# Altium integrated library Silicon Labs Clocks and Oscillators.IntLib: 678 symbols (part 32 of 45)
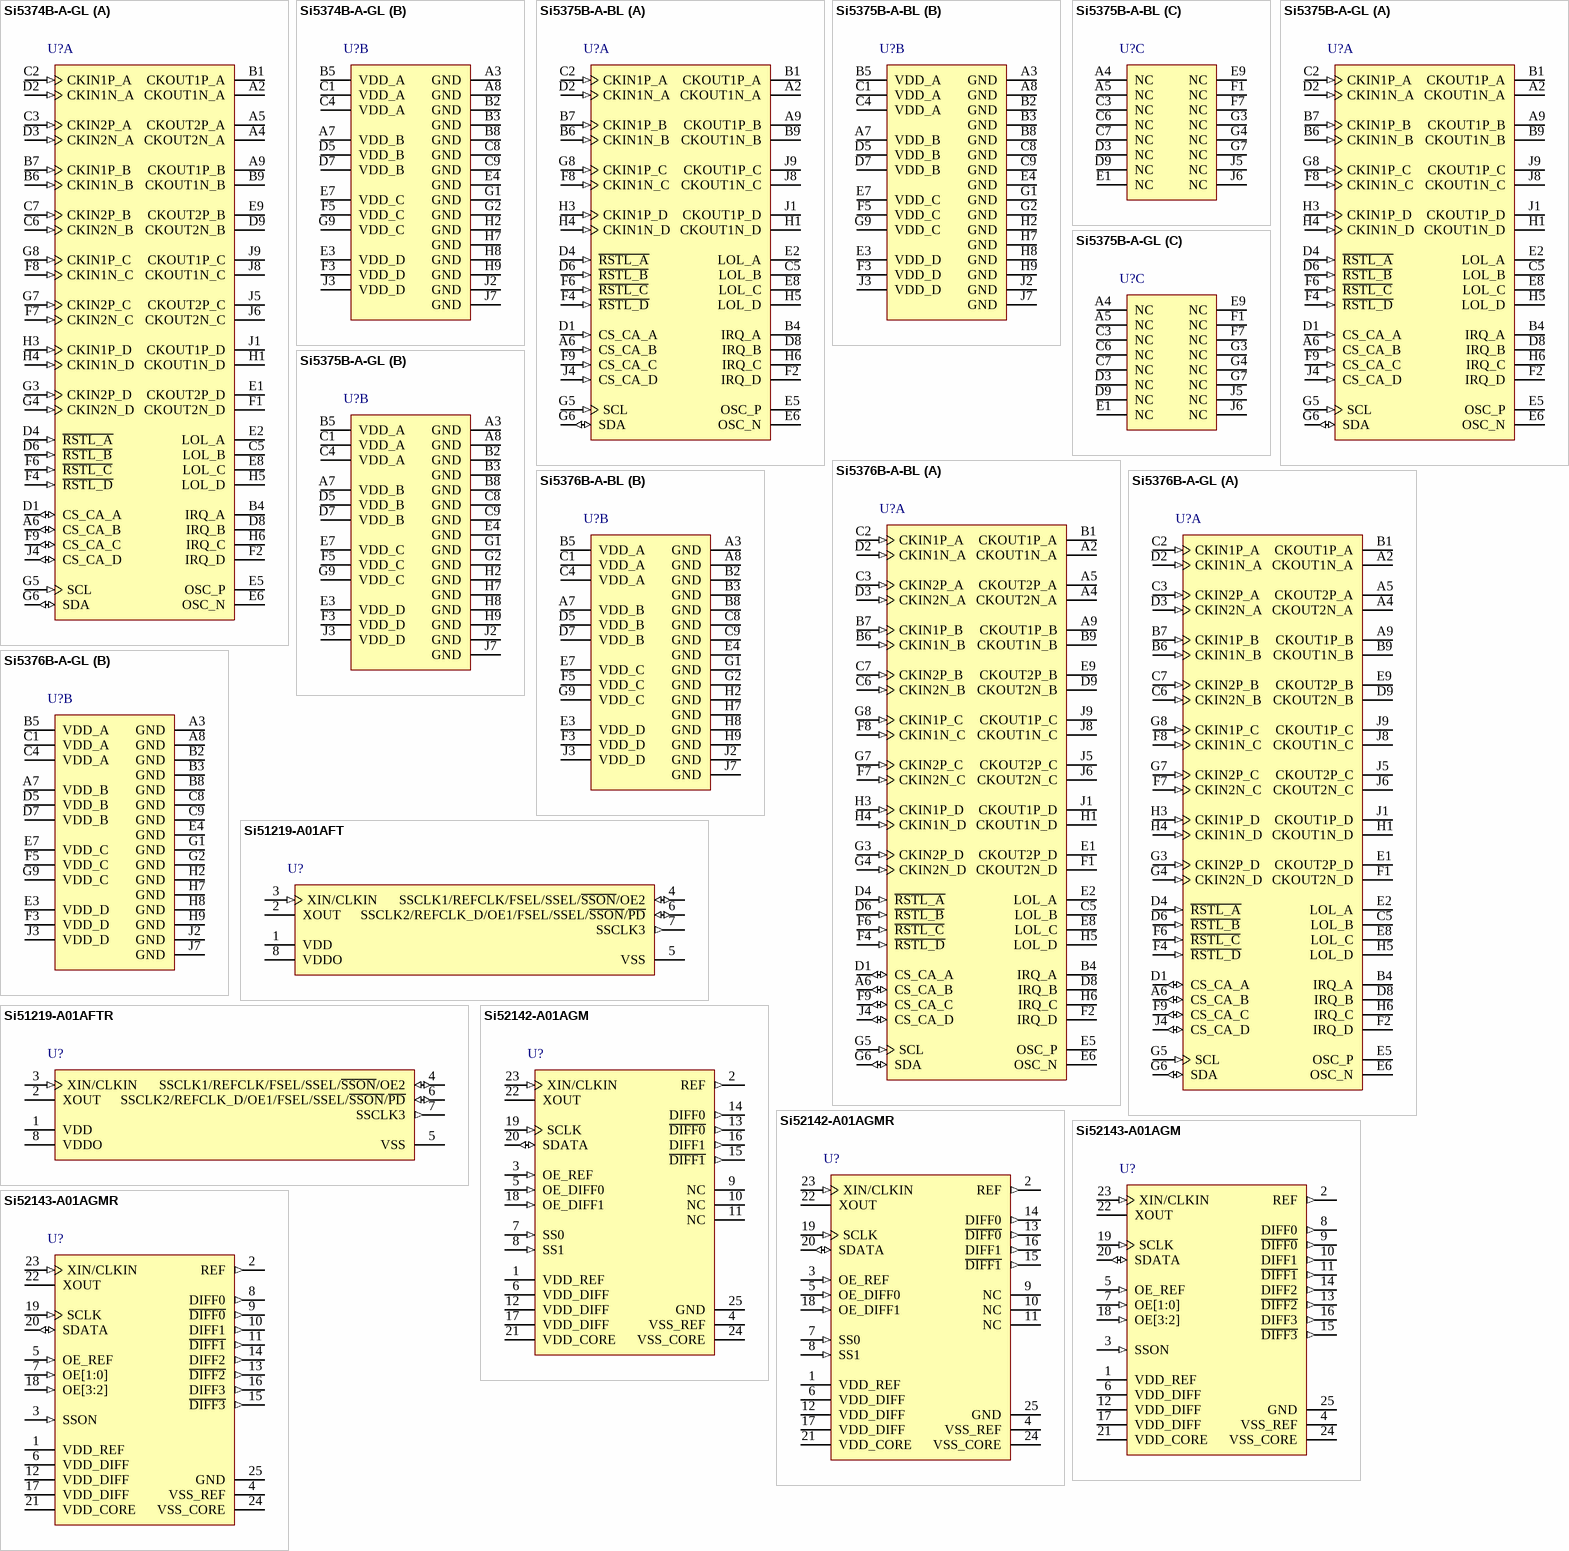
[diagram p75: symbols Si5374B-A-GL to Si52143-A01AGMR]

## Si5376B-A-GL
designator U?
4-PLL Any-Frequency Precision Clock Multiplier / Jitter Attenuator, 1.8 / 2.5 V, 0.002 to 808 MHz Output, -40 to 85 degC, 80-pin BGA; Manufacturer: Silicon Labs; PartNumber: Si5376B-A-GL; Output Format: LVPECL; LVDS; CML; LVCMOS; Reference Inputs: 8; VDD: 1.8 V; 2.5 V; Sub-Family: Clock Generators; DatasheetVersion: Rev. 1.0; PackageReference: PBGA-80; PackageDescription: 80-Ball Plastic Ball Grid Array, Body 10 x 10 mm, Pitch 1 mm; Supplier 1: Digi-Key; Supplier Part Number 1: SI5376B-A-GL-ND; Supplier 2: Mouser; Supplier Part Number 2: 634-SI5376B-A-GL; Output Frequency (MHz): 0.002 to 808; Mounting Technology: Surface Mount; Code_JEDEC: MO-192; Code_IPC: J-STD-020; ComponentLink1Description: Manufacturer URL; ComponentLink1URL: http://www.silabs.com/; ComponentLink2Description: Datasheet; ComponentLink2URL: http://www.silabs.com/Support%20Documents/TechnicalDocs/Si5376.pdf; ComponentLink3Description: Package Specification; ComponentLink3URL: http://www.silabs.com/Support%20Documents/TechnicalDocs/Si5376.pdf
footprint SLAB-PBGA-80 (BGA, 80-Balls, Body 10x10mm, Pitch 1mm)
part A pins: A2 CKOUT1N_A (hiz) "Differential output clock. Output signal format is selected by SFOUT_REG register bits. Output is differential for LVPECL, LVDS, and CML compatible modes. For CMOS format, both output pins drive in phase single-ended clock (See Datasheet)", A4 CKOUT2N_A (hiz) "Differential output clock. Output signal format is selected by SFOUT_REG register bits. Output is differential for LVPECL, LVDS, and CML compatible modes. For CMOS format, both output pins drive in phase single-ended clock (See Datasheet)", A5 CKOUT2P_A (hiz) "Differential output clock. Output signal format is selected by SFOUT_REG register bits. Output is differential for LVPECL, LVDS, and CML compatible modes. For CMOS format, both output pins drive in phase single-ended clock (See Datasheet)", A6 CS_CA_B (io) "Input: In manual clock selection mode, this pin functions as the manual input clock selector if the CKSEL_PIN is set to 1.0 = Select CKIN1. 1 = Select CKIN2 If CKSEL_PIN = 0, the CKSEL_REG register bit controls this function (See Datasheet)", A9 CKOUT1P_B (hiz) "Differential output clock. Output signal format is selected by SFOUT_REG register bits. Output is differential for LVPECL, LVDS, and CML compatible modes. For CMOS format, both output pins drive in phase single-ended clock (See Datasheet)", B1 CKOUT1P_A (hiz) "Differential output clock. Output signal format is selected by SFOUT_REG register bits. Output is differential for LVPECL, LVDS, and CML compatible modes. For CMOS format, both output pins drive in phase single-ended clock (See Datasheet)", B4 IRQ_A (hiz) "This pin functions as a device interrupt output. The interrupt output, IRQ_PINn must be set to 1. The pin functions as a maskable interrupt output with active polarity controlled by the IRQ_POLn register bit. 0 = CKINn (See Datasheet)", B6 CKIN1N_B (in) "Differential input clock. This input can also be driven with a single-ended signal.", B7 CKIN1P_B (in) "Differential input clock. This input can also be driven with a single-ended signal.", B9 CKOUT1N_B (hiz) "Differential output clock. Output signal format is selected by SFOUT_REG register bits. Output is differential for LVPECL, LVDS, and CML compatible modes. For CMOS format, both output pins drive in phase single-ended clock (See Datasheet)", C2 CKIN1P_A (in) "Differential input clock. This input can also be driven with a single-ended signal.", C3 CKIN2P_A (in) "Differential input clock. This input can also be driven with a single-ended signal.", C5 LOL_B (hiz) "This pin function as the active high PLL loss of lock indicator if the LOL_PIN register bit is set to 1. 0 = PLL locked. 1 = PLL unlocked. If LOL_PINn = 0, this pin will tri-state. Active polarity is controlled by the (See Datasheet)", C6 CKIN2N_B (in) "Differential input clock. This input can also be driven with a single-ended signal.", C7 CKIN2P_B (in) "Differential input clock. This input can also be driven with a single-ended signal.", D1 CS_CA_A (io) "Input: In manual clock selection mode, this pin functions as the manual input clock selector if the CKSEL_PIN is set to 1.0 = Select CKIN1. 1 = Select CKIN2 If CKSEL_PIN = 0, the CKSEL_REG register bit controls this function (See Datasheet)", D2 CKIN1N_A (in) "Differential input clock. This input can also be driven with a single-ended signal.", D3 CKIN2N_A (in) "Differential input clock. This input can also be driven with a single-ended signal.", D4 ~{RSTL_A} (in) "Active low input that performs external hardware reset of all four DSPLLs. Resets all internal logic to a known state and forces the device registers to their default value. Clock outputs are tri-stated during reset. The (See Datasheet)", D6 ~{RSTL_B} (in) "Active low input that performs external hardware reset of all four DSPLLs. Resets all internal logic to a known state and forces the device registers to their default value. Clock outputs are tri-stated during reset. The (See Datasheet)", D8 IRQ_B (hiz) "This pin functions as a device interrupt output. The interrupt output, IRQ_PINn must be set to 1. The pin functions as a maskable interrupt output with active polarity controlled by the IRQ_POLn register bit. 0 = CKINn (See Datasheet)", D9 CKOUT2N_B (hiz) "Differential output clock. Output signal format is selected by SFOUT_REG register bits. Output is differential for LVPECL, LVDS, and CML compatible modes. For CMOS format, both output pins drive in phase single-ended clock (See Datasheet)", E1 CKOUT2P_D (hiz) "Differential output clock. Output signal format is selected by SFOUT_REG register bits. Output is differential for LVPECL, LVDS, and CML compatible modes. For CMOS format, both output pins drive in phase single-ended clock (See Datasheet)", E2 LOL_A (hiz) "This pin function as the active high PLL loss of lock indicator if the LOL_PIN register bit is set to 1. 0 = PLL locked. 1 = PLL unlocked. If LOL_PINn = 0, this pin will tri-state. Active polarity is controlled by the (See Datasheet)", E5 OSC_P "An external low jitter reference clock should be connected to these pins. See the any-frequency precision clocks family reference manual for oscillator selection details.", E6 OSC_N "An external low jitter reference clock should be connected to these pins. See the any-frequency precision clocks family reference manual for oscillator selection details.", E8 LOL_C (hiz) "This pin function as the active high PLL loss of lock indicator if the LOL_PIN register bit is set to 1. 0 = PLL locked. 1 = PLL unlocked. If LOL_PINn = 0, this pin will tri-state. Active polarity is controlled by the (See Datasheet)", E9 CKOUT2P_B (hiz) "Differential output clock. Output signal format is selected by SFOUT_REG register bits. Output is differential for LVPECL, LVDS, and CML compatible modes. For CMOS format, both output pins drive in phase single-ended clock (See Datasheet)", F1 CKOUT2N_D (hiz) "Differential output clock. Output signal format is selected by SFOUT_REG register bits. Output is differential for LVPECL, LVDS, and CML compatible modes. For CMOS format, both output pins drive in phase single-ended clock (See Datasheet)", F2 IRQ_D (hiz) "This pin functions as a device interrupt output. The interrupt output, IRQ_PINn must be set to 1. The pin functions as a maskable interrupt output with active polarity controlled by the IRQ_POLn register bit. 0 = CKINn (See Datasheet)", F4 ~{RSTL_D} (in) "Active low input that performs external hardware reset of all four DSPLLs. Resets all internal logic to a known state and forces the device registers to their default value. Clock outputs are tri-stated during reset. The (See Datasheet)", F6 ~{RSTL_C} (in) "Active low input that performs external hardware reset of all four DSPLLs. Resets all internal logic to a known state and forces the device registers to their default value. Clock outputs are tri-stated during reset. The (See Datasheet)", F7 CKIN2N_C (in) "Differential input clock. This input can also be driven with a single-ended signal.", F8 CKIN1N_C (in) "Differential input clock. This input can also be driven with a single-ended signal.", F9 CS_CA_C (io) "Input: In manual clock selection mode, this pin functions as the manual input clock selector if the CKSEL_PIN is set to 1.0 = Select CKIN1. 1 = Select CKIN2 If CKSEL_PIN = 0, the CKSEL_REG register bit controls this function (See Datasheet)", G3 CKIN2P_D (in) "Differential input clock. This input can also be driven with a single-ended signal.", G4 CKIN2N_D (in) "Differential input clock. This input can also be driven with a single-ended signal.", G5 SCL (in) "This pin functions as the serial clock input. This pin has a weak pull-down.", G6 SDA (io) "I2C pin functions as the bi-directional serial data port.", G7 CKIN2P_C (in) "Differential input clock. This input can also be driven with a single-ended signal.", G8 CKIN1P_C (in) "Differential input clock. This input can also be driven with a single-ended signal.", H1 CKOUT1N_D (hiz) "Differential output clock. Output signal format is selected by SFOUT_REG register bits. Output is differential for LVPECL, LVDS, and CML compatible modes. For CMOS format, both output pins drive in phase single-ended clock (See Datasheet)", H3 CKIN1P_D (in) "Differential input clock. This input can also be driven with a single-ended signal.", H4 CKIN1N_D (in) "Differential input clock. This input can also be driven with a single-ended signal.", H5 LOL_D (hiz) "This pin function as the active high PLL loss of lock indicator if the LOL_PIN register bit is set to 1. 0 = PLL locked. 1 = PLL unlocked. If LOL_PINn = 0, this pin will tri-state. Active polarity is controlled by the (See Datasheet)", H6 IRQ_C (hiz) "This pin functions as a device interrupt output. The interrupt output, IRQ_PINn must be set to 1. The pin functions as a maskable interrupt output with active polarity controlled by the IRQ_POLn register bit. 0 = CKINn (See Datasheet)", J1 CKOUT1P_D (hiz) "Differential output clock. Output signal format is selected by SFOUT_REG register bits. Output is differential for LVPECL, LVDS, and CML compatible modes. For CMOS format, both output pins drive in phase single-ended clock (See Datasheet)", J4 CS_CA_D (io) "Input: In manual clock selection mode, this pin functions as the manual input clock selector if the CKSEL_PIN is set to 1.0 = Select CKIN1. 1 = Select CKIN2 If CKSEL_PIN = 0, the CKSEL_REG register bit controls this function (See Datasheet)", J5 CKOUT2P_C (hiz) "Differential output clock. Output signal format is selected by SFOUT_REG register bits. Output is differential for LVPECL, LVDS, and CML compatible modes. For CMOS format, both output pins drive in phase single-ended clock (See Datasheet)", J6 CKOUT2N_C (hiz) "Differential output clock. Output signal format is selected by SFOUT_REG register bits. Output is differential for LVPECL, LVDS, and CML compatible modes. For CMOS format, both output pins drive in phase single-ended clock (See Datasheet)", J8 CKOUT1N_C (hiz) "Differential output clock. Output signal format is selected by SFOUT_REG register bits. Output is differential for LVPECL, LVDS, and CML compatible modes. For CMOS format, both output pins drive in phase single-ended clock (See Datasheet)", J9 CKOUT1P_C (hiz) "Differential output clock. Output signal format is selected by SFOUT_REG register bits. Output is differential for LVPECL, LVDS, and CML compatible modes. For CMOS format, both output pins drive in phase single-ended clock (See Datasheet)"
part B pins: A3 GND (power) "Must be connected to system ground. Minimize the ground path impedance for optimal performance of this device. See recommended layout.", A7 VDD_B (power) "The device operates from a 1.8 or 2.5 V supply. A 0.1 uF bypass capacitive is required for every VDD_9 pin. Bypass capacitors should be associated with the following VDD_q pins: 0.1 uF per VDD pin. Four 1.0 uF should also be (See Datasheet)", A8 GND (power) "Must be connected to system ground. Minimize the ground path impedance for optimal performance of this device. See recommended layout.", B2 GND (power) "Must be connected to system ground. Minimize the ground path impedance for optimal performance of this device. See recommended layout.", B3 GND (power) "Must be connected to system ground. Minimize the ground path impedance for optimal performance of this device. See recommended layout.", B5 VDD_A (power) "The device operates from a 1.8 or 2.5 V supply. A 0.1 uF bypass capacitive is required for every VDD_9 pin. Bypass capacitors should be associated with the following VDD_q pins: 0.1 uF per VDD pin. Four 1.0 uF should also be (See Datasheet)", B8 GND (power) "Must be connected to system ground. Minimize the ground path impedance for optimal performance of this device. See recommended layout.", C1 VDD_A (power) "The device operates from a 1.8 or 2.5 V supply. A 0.1 uF bypass capacitive is required for every VDD_9 pin. Bypass capacitors should be associated with the following VDD_q pins: 0.1 uF per VDD pin. Four 1.0 uF should also be (See Datasheet)", C4 VDD_A (power) "The device operates from a 1.8 or 2.5 V supply. A 0.1 uF bypass capacitive is required for every VDD_9 pin. Bypass capacitors should be associated with the following VDD_q pins: 0.1 uF per VDD pin. Four 1.0 uF should also be (See Datasheet)", C8 GND (power) "Must be connected to system ground. Minimize the ground path impedance for optimal performance of this device. See recommended layout.", C9 GND (power) "Must be connected to system ground. Minimize the ground path impedance for optimal performance of this device. See recommended layout.", D5 VDD_B (power) "The device operates from a 1.8 or 2.5 V supply. A 0.1 uF bypass capacitive is required for every VDD_9 pin. Bypass capacitors should be associated with the following VDD_q pins: 0.1 uF per VDD pin. Four 1.0 uF should also be (See Datasheet)", D7 VDD_B (power) "The device operates from a 1.8 or 2.5 V supply. A 0.1 uF bypass capacitive is required for every VDD_9 pin. Bypass capacitors should be associated with the following VDD_q pins: 0.1 uF per VDD pin. Four 1.0 uF should also be (See Datasheet)", E3 VDD_D (power) "The device operates from a 1.8 or 2.5 V supply. A 0.1 uF bypass capacitive is required for every VDD_9 pin. Bypass capacitors should be associated with the following VDD_q pins: 0.1 uF per VDD pin. Four 1.0 uF should also be (See Datasheet)", E4 GND (power) "Must be connected to system ground. Minimize the ground path impedance for optimal performance of this device. See recommended layout.", E7 VDD_C (power) "The device operates from a 1.8 or 2.5 V supply. A 0.1 uF bypass capacitive is required for every VDD_9 pin. Bypass capacitors should be associated with the following VDD_q pins: 0.1 uF per VDD pin. Four 1.0 uF should also be (See Datasheet)", F3 VDD_D (power) "The device operates from a 1.8 or 2.5 V supply. A 0.1 uF bypass capacitive is required for every VDD_9 pin. Bypass capacitors should be associated with the following VDD_q pins: 0.1 uF per VDD pin. Four 1.0 uF should also be (See Datasheet)", F5 VDD_C (power) "The device operates from a 1.8 or 2.5 V supply. A 0.1 uF bypass capacitive is required for every VDD_9 pin. Bypass capacitors should be associated with the following VDD_q pins: 0.1 uF per VDD pin. Four 1.0 uF should also be (See Datasheet)", G1 GND (power) "Must be connected to system ground. Minimize the ground path impedance for optimal performance of this device. See recommended layout.", G2 GND (power) "Must be connected to system ground. Minimize the ground path impedance for optimal performance of this device. See recommended layout.", G9 VDD_C (power) "The device operates from a 1.8 or 2.5 V supply. A 0.1 uF bypass capacitive is required for every VDD_9 pin. Bypass capacitors should be associated with the following VDD_q pins: 0.1 uF per VDD pin. Four 1.0 uF should also be (See Datasheet)", H2 GND (power) "Must be connected to system ground. Minimize the ground path impedance for optimal performance of this device. See recommended layout.", H7 GND (power) "Must be connected to system ground. Minimize the ground path impedance for optimal performance of this device. See recommended layout.", H8 GND (power) "Must be connected to system ground. Minimize the ground path impedance for optimal performance of this device. See recommended layout.", H9 GND (power) "Must be connected to system ground. Minimize the ground path impedance for optimal performance of this device. See recommended layout.", J2 GND (power) "Must be connected to system ground. Minimize the ground path impedance for optimal performance of this device. See recommended layout.", J3 VDD_D (power) "The device operates from a 1.8 or 2.5 V supply. A 0.1 uF bypass capacitive is required for every VDD_9 pin. Bypass capacitors should be associated with the following VDD_q pins: 0.1 uF per VDD pin. Four 1.0 uF should also be (See Datasheet)", J7 GND (power) "Must be connected to system ground. Minimize the ground path impedance for optimal performance of this device. See recommended layout."

## Si51219-A01AFT
designator U?
Three Outputs Factory Programmable Clock Generator, 3.3 V, 100 MHz Output, 0 to 70 degC, 8-pin SOP; Manufacturer: Silicon Labs; PartNumber: Si51219-A01AFT; Output Format: HCSL; Output Frequency (MHz): 100; Reference Inputs: 1; VDD: 3.3 V; Sub-Family: Clock Generators part3; DatasheetVersion: Rev. 0.7; PackageReference: TSSOP-8; PackageDescription: 8-Pin Thin Shrink Small-Outline Package, Body 4.4 x 3 mm, Pitch 0.65 mm; Supplier 1: Digi-Key; Supplier Part Number 1: SI51219-A01AFT-ND; Supplier 2: Mouser; Supplier Part Number 2: 634-SI51219-A01AFT; Mounting Technology: Surface Mount; ComponentLink1Description: Manufacturer URL; ComponentLink1URL: http://www.silabs.com/; ComponentLink2Description: Datasheet; ComponentLink2URL: http://www.silabs.com/Support%20Documents/TechnicalDocs/Si51219.pdf; ComponentLink3Description: Package Specification; ComponentLink3URL: http://www.silabs.com/Support%20Documents/TechnicalDocs/SL2305.pdf
footprint SLAB-TSSOP-8_A_N (SOP, 8-Leads, Body 4.5x3.1mm, Pitch 0.65mm, IPC Medium Density)
footprint SLAB-TSSOP-8_A_L (SOP, 8-Leads, Body 4.5x3.1mm, Pitch 0.65mm, IPC High Density)
footprint SLAB-TSSOP-8_A_M (SOP, 8-Leads, Body 4.5x3.1mm, Pitch 0.65mm, IPC Low Density)
pins: 1 VDD (power) "2.5 to 3.3 V power supply.", 2 XOUT "Crystal output. Leave this pin unconnected (floating) if an external clock input is used.", 3 XIN/CLKIN (in) "External crystal and clock input.", 4 SSCLK1/REFCLK/FSEL/SSEL/~{SSON}/OE2 (io), 5 VSS (power) "Ground.", 6 SSCLK2/REFCLK_D/OE1/FSEL/SSEL/~{SSON}/~{PD} (io), 7 SSCLK3 (out) "Programmable SSCLK3 output. The frequency at this pin is synthesized by internal PLL with or without spread. It is power by VDDO pin (pin 8).", 8 VDDO (power) "1.8 to 3.3 V output power supply to SSCLK3 (pin 7) VDDO =< VDD."

## Si51219-A01AFTR
designator U?
Three Outputs Factory Programmable Clock Generator, 3.3 V, 100 MHz Output, 0 to 70 degC, 8-pin SOP, Tape and Reel; Manufacturer: Silicon Labs; PartNumber: Si51219-A01AFTR; Output Format: HCSL; Output Frequency (MHz): 100; Reference Inputs: 1; VDD: 3.3 V; Sub-Family: Clock Generators part3; DatasheetVersion: Rev. 0.7; PackageReference: TSSOP-8; PackageDescription: 8-Pin Thin Shrink Small-Outline Package, Body 4.4 x 3 mm, Pitch 0.65 mm; Supplier 1: Digi-Key; Supplier Part Number 1: SI51219-A01AFTR-ND; Supplier 2: Mouser; Supplier Part Number 2: 634-SI51219-A01AFTR; Packing: Tape and Reel; Mounting Technology: Surface Mount; ComponentLink1Description: Manufacturer URL; ComponentLink1URL: http://www.silabs.com/; ComponentLink2Description: Datasheet; ComponentLink2URL: http://www.silabs.com/Support%20Documents/TechnicalDocs/Si51219.pdf; ComponentLink3Description: Package Specification; ComponentLink3URL: http://www.silabs.com/Support%20Documents/TechnicalDocs/SL2305.pdf
footprint SLAB-TSSOP-8_A_N (SOP, 8-Leads, Body 4.5x3.1mm, Pitch 0.65mm, IPC Medium Density)
footprint SLAB-TSSOP-8_A_L (SOP, 8-Leads, Body 4.5x3.1mm, Pitch 0.65mm, IPC High Density)
footprint SLAB-TSSOP-8_A_M (SOP, 8-Leads, Body 4.5x3.1mm, Pitch 0.65mm, IPC Low Density)
pins: 1 VDD (power) "2.5 to 3.3 V power supply.", 2 XOUT "Crystal output. Leave this pin unconnected (floating) if an external clock input is used.", 3 XIN/CLKIN (in) "External crystal and clock input.", 4 SSCLK1/REFCLK/FSEL/SSEL/~{SSON}/OE2 (io), 5 VSS (power) "Ground.", 6 SSCLK2/REFCLK_D/OE1/FSEL/SSEL/~{SSON}/~{PD} (io), 7 SSCLK3 (out) "Programmable SSCLK3 output. The frequency at this pin is synthesized by internal PLL with or without spread. It is power by VDDO pin (pin 8).", 8 VDDO (power) "1.8 to 3.3 V output power supply to SSCLK3 (pin 7) VDDO =< VDD."

## Si52142-A01AGM
designator U?
PCI-Express Gen 1, Gen 2, & Gen 3 Two Output Clock Generator with 25 MHz Reference Clock, 3.3 V, 100 MHz Max Output, -40 to 85 degC, 24-pin QFN; Manufacturer: Silicon Labs; PartNumber: Si52142-A01AGM; Output Format: HSCL; LVCMOS; Output Frequency (MHz): 25; 100; Reference Inputs: 1; VDD: 3.3 V; Sub-Family: Clock Generators; DatasheetVersion: Rev. 1.1; PackageReference: QFN-24; PackageDescription: 24-Pin Quad-Flat No-Leads Package, Body 4 x 4 mm, Pitch 0.5 mm; Supplier 1: Digi-Key; Supplier Part Number 1: 336-2157-ND; Supplier 2: Mouser; Supplier Part Number 2: 634-SI52142A01A-GM; Mounting Technology: Surface Mount; Code_JEDEC: MO-220; Code_IPC: J-STD-020; ComponentLink1Description: Manufacturer URL; ComponentLink1URL: http://www.silabs.com/; ComponentLink2Description: Datasheet; ComponentLink2URL: http://www.silabs.com/Support%20Documents/TechnicalDocs/Si52142.pdf; ComponentLink3Description: Package Specification; ComponentLink3URL: http://www.silabs.com/Support%20Documents/TechnicalDocs/Si53152.pdf
footprint SLAB-QFN-24-2700x2700TP_N (QFN, 24-Leads, Body 4x4mm, Pitch 0.5mm, Thermal Pad 2.7x2.7mm, IPC Medium Density)
footprint SLAB-QFN-24-2700x2700TP_L (QFN, 24-Leads, Body 4x4mm, Pitch 0.5mm, Thermal Pad 2.7x2.7mm, IPC High Density)
footprint SLAB-QFN-24-2700x2700TP_M (QFN, 24-Leads, Body 4x4mm, Pitch 0.5mm, Thermal Pad 2.7x2.7mm, IPC Low Density)
pins: 1 VDD_REF (power) "3.3 V power supply.", 2 REF (out) "3.3 V, 25 MHz crystal reference clock.", 3 OE_REF (in) "Active high input pin to enable or disable REF clock (internal 100 kohm pull-up).", 4 VSS_REF (power) "Ground.", 5 OE_DIFF0 (in) "Active high input pin to enable or disable DIFF0 clock (internal 100 kohm pull-up).", 6 VDD_DIFF (power) "3.3 V power supply.", 7 SS0 (in) "3.3 V tolerant latch-input for enabling Frequency/ Spread selection on DIFF0 and DIFF1 outputs. Refer to Table 1 on page 4 for SS[1:0] specifications (internal 100 kohm pull-down).", 8 SS1 (in) "3.3 V tolerant latch-input for enabling Frequency/ Spread selection on DIFF0 and DIFF1 outputs. Refer to Table 1 on page 4 for SS[1:0] specifications (internal 100 kohm pull-down).", 9 NC "No Connect.", 10 NC "No connect.", 11 NC "No connect.", 12 VDD_DIFF (power) "3.3 V power supply.", 13 ~{DIFF0} (out) "0.7 V, 100 MHz differential clock.", 14 DIFF0 (out) "0.7 V, 100 MHz differential clock.", 15 ~{DIFF1} (out) "0.7 V, 100 MHz differential clock.", 16 DIFF1 (out) "0.7 V, 100 MHz differential clock.", 17 VDD_DIFF (power) "3.3 V power supply.", 18 OE_DIFF1 (in) "Active high input pin to enable or disable DIFF1 clock (internal 100 kohm pull-up).", 19 SCLK (in) "I2C SCLOCK.", 20 SDATA (io) "I2C SDATA.", 21 VDD_CORE (power) "3.3 V power supply.", 22 XOUT "25.00 MHz Crystal output, Float XOUT if using only CLKIN (Clock input).", 23 XIN/CLKIN (in) "25.00 MHz Crystal input or 3.3 V, 25 MHz Clock Input.", 24 VSS_CORE (power) "Ground.", 25 GND (power) "Ground for bottom pad of the IC."

## Si52142-A01AGMR
designator U?
PCI-Express Gen 1, Gen 2, & Gen 3 Two Output Clock Generator with 25 MHz Reference Clock, 3.3 V, 100 MHz Max Output, -40 to 85 degC, 24-pin QFN, Tape and Reel; Manufacturer: Silicon Labs; PartNumber: Si52142-A01AGMR; Output Format: HSCL; LVCMOS; Output Frequency (MHz): 25; 100; Phase Jitter (RMS): 1 ps; Reference Inputs: 1; VDD: 3.3 V; Sub-Family: Clock Generators; DatasheetVersion: Rev. 1.1; PackageReference: QFN-24; PackageDescription: 24-Pin Quad-Flat No-Leads Package, Body 4 x 4 mm, Pitch 0.5 mm; Supplier 1: Digi-Key; Supplier Part Number 1: SI52142-A01AGMR-ND; Supplier 2: Mouser; Supplier Part Number 2: 634-SI52142-A01AGMR; Packing: Tape and Reel; Mounting Technology: Surface Mount; Code_JEDEC: MO-220; Code_IPC: J-STD-020; ComponentLink1Description: Manufacturer URL; ComponentLink1URL: http://www.silabs.com/; ComponentLink2Description: Datasheet; ComponentLink2URL: http://www.silabs.com/Support%20Documents/TechnicalDocs/Si52142.pdf; ComponentLink3Description: Package Specification; ComponentLink3URL: http://www.silabs.com/Support%20Documents/TechnicalDocs/Si53152.pdf
footprint SLAB-QFN-24-2700x2700TP_N (QFN, 24-Leads, Body 4x4mm, Pitch 0.5mm, Thermal Pad 2.7x2.7mm, IPC Medium Density)
footprint SLAB-QFN-24-2700x2700TP_L (QFN, 24-Leads, Body 4x4mm, Pitch 0.5mm, Thermal Pad 2.7x2.7mm, IPC High Density)
footprint SLAB-QFN-24-2700x2700TP_M (QFN, 24-Leads, Body 4x4mm, Pitch 0.5mm, Thermal Pad 2.7x2.7mm, IPC Low Density)
pins: 1 VDD_REF (power) "3.3 V power supply.", 2 REF (out) "3.3 V, 25 MHz crystal reference clock.", 3 OE_REF (in) "Active high input pin to enable or disable REF clock (internal 100 kohm pull-up).", 4 VSS_REF (power) "Ground.", 5 OE_DIFF0 (in) "Active high input pin to enable or disable DIFF0 clock (internal 100 kohm pull-up).", 6 VDD_DIFF (power) "3.3 V power supply.", 7 SS0 (in) "3.3 V tolerant latch-input for enabling Frequency/ Spread selection on DIFF0 and DIFF1 outputs. Refer to Table 1 on page 4 for SS[1:0] specifications (internal 100 kohm pull-down).", 8 SS1 (in) "3.3 V tolerant latch-input for enabling Frequency/ Spread selection on DIFF0 and DIFF1 outputs. Refer to Table 1 on page 4 for SS[1:0] specifications (internal 100 kohm pull-down).", 9 NC "No Connect.", 10 NC "No connect.", 11 NC "No connect.", 12 VDD_DIFF (power) "3.3 V power supply.", 13 ~{DIFF0} (out) "0.7 V, 100 MHz differential clock.", 14 DIFF0 (out) "0.7 V, 100 MHz differential clock.", 15 ~{DIFF1} (out) "0.7 V, 100 MHz differential clock.", 16 DIFF1 (out) "0.7 V, 100 MHz differential clock.", 17 VDD_DIFF (power) "3.3 V power supply.", 18 OE_DIFF1 (in) "Active high input pin to enable or disable DIFF1 clock (internal 100 kohm pull-up).", 19 SCLK (in) "I2C SCLOCK.", 20 SDATA (io) "I2C SDATA.", 21 VDD_CORE (power) "3.3 V power supply.", 22 XOUT "25.00 MHz Crystal output, Float XOUT if using only CLKIN (Clock input).", 23 XIN/CLKIN (in) "25.00 MHz Crystal input or 3.3 V, 25 MHz Clock Input.", 24 VSS_CORE (power) "Ground.", 25 GND (power) "Ground for bottom pad of the IC."

## Si52143-A01AGM
designator U?
PCI-Express Gen 1, Gen 2, & Gen 3 Quad Output Clock Generator with 25 MHz Reference Clock, 3.3 V, 100 MHz Max Output, -40 to 85 degC, 24-pin QFN; Manufacturer: Silicon Labs; PartNumber: Si52143-A01AGM; Output Format: HSCL; LVCMOS; Output Frequency (MHz): 25; 100; Reference Inputs: 1; VDD: 3.3 V; Sub-Family: Clock Generators; DatasheetVersion: Rev. 1.1; PackageReference: QFN-24; PackageDescription: 24-Pin Quad-Flat No-Leads Package, Body 4 x 4 mm, Pitch 0.5 mm; Supplier 1: Digi-Key; Supplier Part Number 1: SI52143-A01AGM-ND; Supplier 2: Mouser; Supplier Part Number 2: 634-SI52143-A01AGM; Mounting Technology: Surface Mount; Code_JEDEC: MO-220; Code_IPC: J-STD-020; ComponentLink1Description: Manufacturer URL; ComponentLink1URL: http://www.silabs.com/; ComponentLink2Description: Datasheet; ComponentLink2URL: http://www.silabs.com/Support%20Documents/TechnicalDocs/Si52143.pdf; ComponentLink3Description: Package Specification; ComponentLink3URL: http://www.silabs.com/Support%20Documents/TechnicalDocs/Si53152.pdf
footprint SLAB-QFN-24-2700x2700TP_N (QFN, 24-Leads, Body 4x4mm, Pitch 0.5mm, Thermal Pad 2.7x2.7mm, IPC Medium Density)
footprint SLAB-QFN-24-2700x2700TP_L (QFN, 24-Leads, Body 4x4mm, Pitch 0.5mm, Thermal Pad 2.7x2.7mm, IPC High Density)
footprint SLAB-QFN-24-2700x2700TP_M (QFN, 24-Leads, Body 4x4mm, Pitch 0.5mm, Thermal Pad 2.7x2.7mm, IPC Low Density)
pins: 1 VDD_REF (power) "3.3 V power supply.", 2 REF (out) "3.3 V, 25 MHz crystal reference clock.", 3 SSON (in) "Active high input pin enables -0.5% spread on DIFF outputs (internal 100 kohm pull-down).", 4 VSS_REF (power) "Ground", 5 OE_REF (in) "Active high input to enable or disable REF clock.", 6 VDD_DIFF (power) "3.3 V power supply.", 7 OE[1:0] (in) "Active high input to enable or disable DIFF0 and DIFF1 clocks.", 8 DIFF0 (out) "0.7 V, 100 MHz differential clock.", 9 ~{DIFF0} (out) "0.7 V, 100 MHz differential clock.", 10 DIFF1 (out) "0.7 V, 100 MHz differential clock.", 11 ~{DIFF1} (out) "0.7 V, 100 MHz differential clock.", 12 VDD_DIFF (power) "3.3 V power supply.", 13 ~{DIFF2} (out) "0.7 V, 100 MHz differential clock.", 14 DIFF2 (out) "0.7 V, 100 MHz differential clock.", 15 ~{DIFF3} (out) "0.7 V, 100 MHz differential clock.", 16 DIFF3 (out) "0.7 V, 100 MHz differential clock.", 17 VDD_DIFF (power) "3.3 V power supply.", 18 OE[3:2] (in) "Active high input to enable or disable DIFF2 and DIFF3 clocks.", 19 SCLK (in) "I2C SCLOCK.", 20 SDATA (io) "I2C SDATA.", 21 VDD_CORE (power) "3.3 V power supply.", 22 XOUT "25.00 MHz crystal output, Float XOUT if using only CLKIN (Clock input).", 23 XIN/CLKIN (in) "25.00 MHz crystal input or 3.3 V, 25 MHz Clock Input.", 24 VSS_CORE (power) "Ground.", 25 GND (power) "Ground for bottom pad of the IC."

## Si52143-A01AGMR
designator U?
PCI-Express Gen 1, Gen 2, & Gen 3 Quad Output Clock Generator with 25 MHz Reference Clock, 3.3 V, 100 MHz Max Output, -40 to 85 degC, 24-pin QFN, Tape and Reel; Manufacturer: Silicon Labs; PartNumber: Si52143-A01AGMR; Output Format: HSCL; LVCMOS; Output Frequency (MHz): 25; 100; Phase Jitter (RMS): 1 ps; Reference Inputs: 1; VDD: 3.3 V; Sub-Family: Clock Generators; DatasheetVersion: Rev. 1.1; PackageReference: QFN-24; PackageDescription: 24-Pin Quad-Flat No-Leads Package, Body 4 x 4 mm, Pitch 0.5 mm; Supplier 1: Digi-Key; Supplier Part Number 1: SI52143-A01AGMR-ND; Supplier 2: Mouser; Supplier Part Number 2: 634-SI52143-A01AGMR; Packing: Tape and Reel; Mounting Technology: Surface Mount; Code_JEDEC: MO-220; Code_IPC: J-STD-020; ComponentLink1Description: Manufacturer URL; ComponentLink1URL: http://www.silabs.com/; ComponentLink2Description: Datasheet; ComponentLink2URL: http://www.silabs.com/Support%20Documents/TechnicalDocs/Si52143.pdf; ComponentLink3Description: Package Specification; ComponentLink3URL: http://www.silabs.com/Support%20Documents/TechnicalDocs/Si53152.pdf
footprint SLAB-QFN-24-2700x2700TP_N (QFN, 24-Leads, Body 4x4mm, Pitch 0.5mm, Thermal Pad 2.7x2.7mm, IPC Medium Density)
footprint SLAB-QFN-24-2700x2700TP_L (QFN, 24-Leads, Body 4x4mm, Pitch 0.5mm, Thermal Pad 2.7x2.7mm, IPC High Density)
footprint SLAB-QFN-24-2700x2700TP_M (QFN, 24-Leads, Body 4x4mm, Pitch 0.5mm, Thermal Pad 2.7x2.7mm, IPC Low Density)
pins: 1 VDD_REF (power) "3.3 V power supply.", 2 REF (out) "3.3 V, 25 MHz crystal reference clock.", 3 SSON (in) "Active high input pin enables -0.5% spread on DIFF outputs (internal 100 kohm pull-down).", 4 VSS_REF (power) "Ground", 5 OE_REF (in) "Active high input to enable or disable REF clock.", 6 VDD_DIFF (power) "3.3 V power supply.", 7 OE[1:0] (in) "Active high input to enable or disable DIFF0 and DIFF1 clocks.", 8 DIFF0 (out) "0.7 V, 100 MHz differential clock.", 9 ~{DIFF0} (out) "0.7 V, 100 MHz differential clock.", 10 DIFF1 (out) "0.7 V, 100 MHz differential clock.", 11 ~{DIFF1} (out) "0.7 V, 100 MHz differential clock.", 12 VDD_DIFF (power) "3.3 V power supply.", 13 ~{DIFF2} (out) "0.7 V, 100 MHz differential clock.", 14 DIFF2 (out) "0.7 V, 100 MHz differential clock.", 15 ~{DIFF3} (out) "0.7 V, 100 MHz differential clock.", 16 DIFF3 (out) "0.7 V, 100 MHz differential clock.", 17 VDD_DIFF (power) "3.3 V power supply.", 18 OE[3:2] (in) "Active high input to enable or disable DIFF2 and DIFF3 clocks.", 19 SCLK (in) "I2C SCLOCK.", 20 SDATA (io) "I2C SDATA.", 21 VDD_CORE (power) "3.3 V power supply.", 22 XOUT "25.00 MHz crystal output, Float XOUT if using only CLKIN (Clock input).", 23 XIN/CLKIN (in) "25.00 MHz crystal input or 3.3 V, 25 MHz Clock Input.", 24 VSS_CORE (power) "Ground.", 25 GND (power) "Ground for bottom pad of the IC."

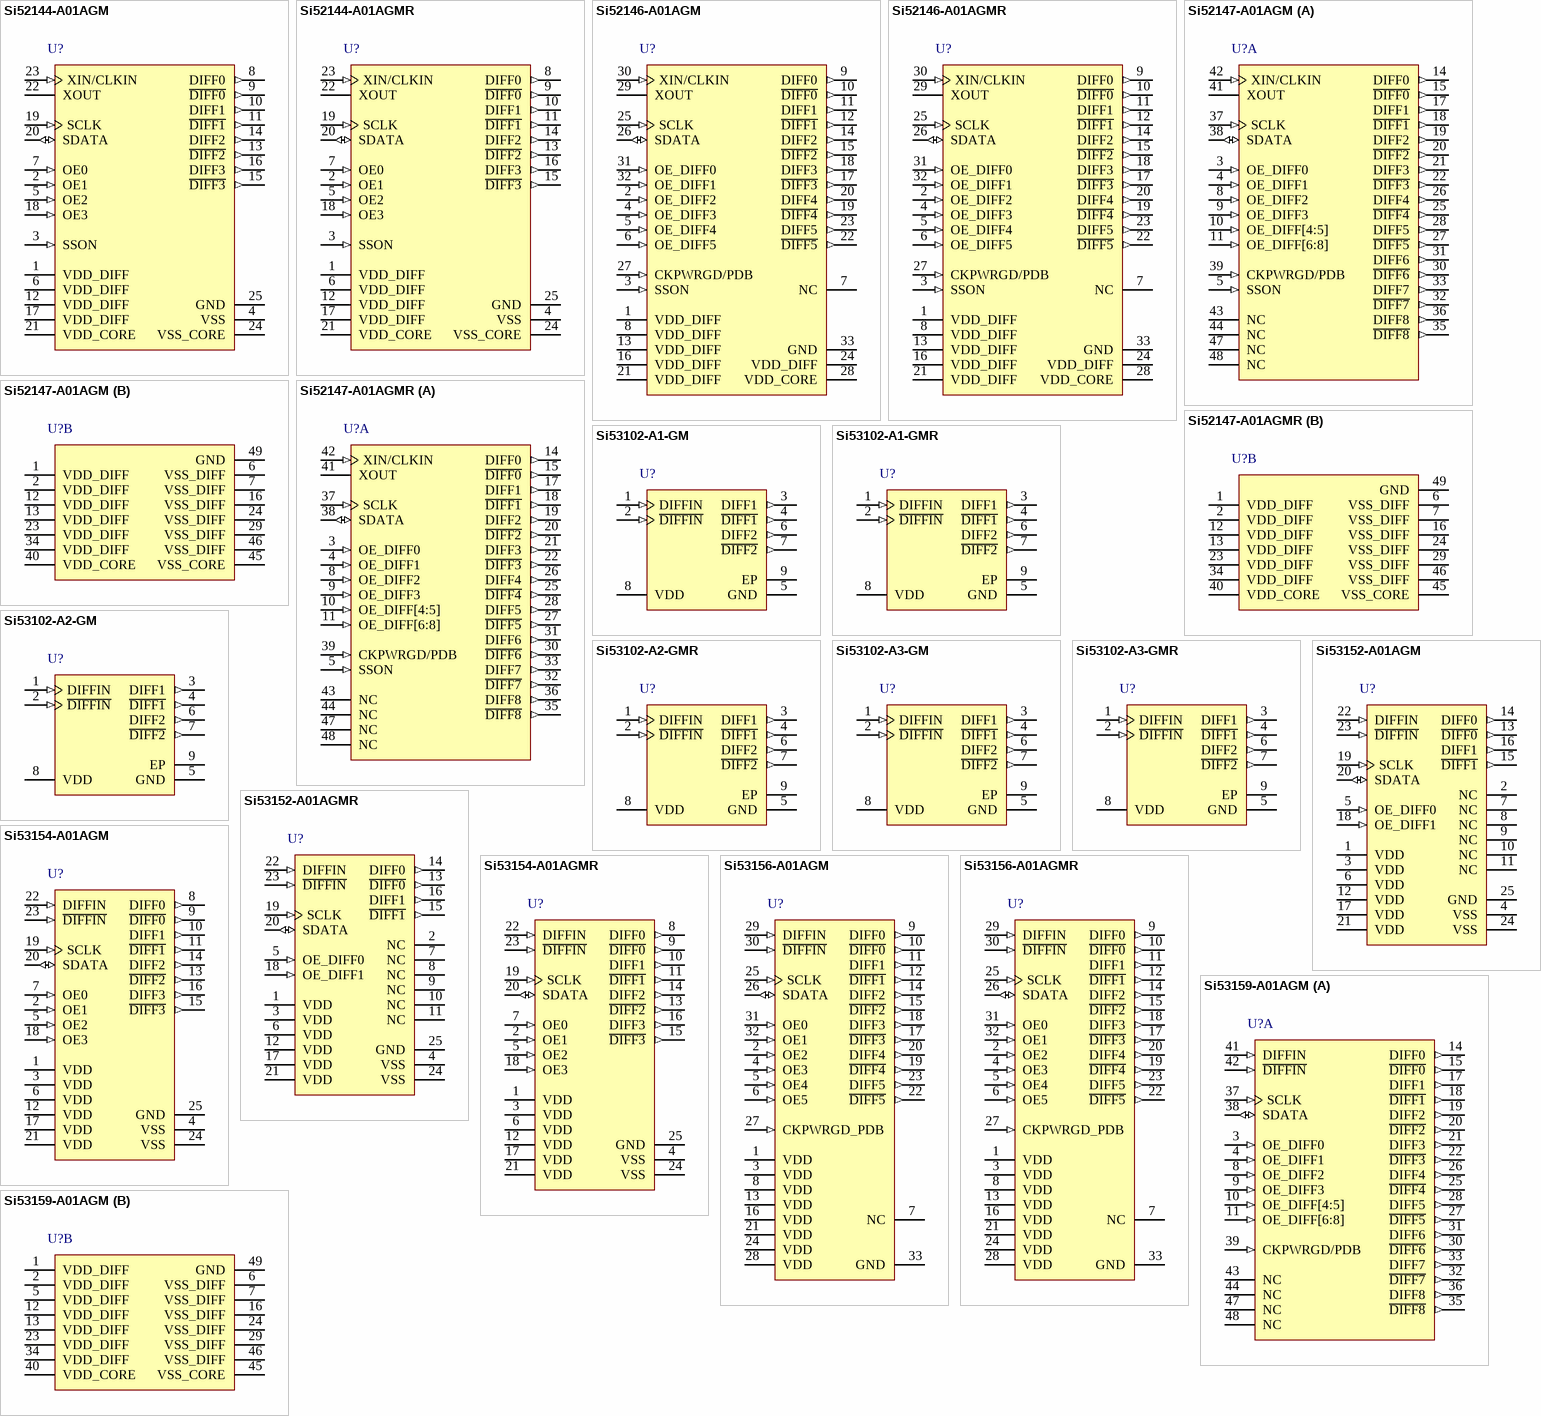
[diagram p32: symbols Si52144-A01AGM to Si53159-A01AGM]

## Si52144-A01AGM
designator U?
PCI-Express Gen 1, Gen 2, & Gen 3 Quad Output Clock Generator, 3.3 V, 100 MHz Output, -40 to 85 degC, 24-pin QFN; Manufacturer: Silicon Labs; PartNumber: Si52144-A01AGM; Output Format: HSCL; Output Frequency (MHz): 100; Reference Inputs: 1; VDD: 3.3 V; Sub-Family: Clock Generators; DatasheetVersion: Rev. 1.1; PackageReference: QFN-24; PackageDescription: 24-Pin Quad-Flat No-Leads Package, Body 4 x 4 mm, Pitch 0.5 mm; Supplier 1: Digi-Key; Supplier Part Number 1: 336-2158-ND; Supplier 2: Mouser; Supplier Part Number 2: 634-SI52144A01A-GM; Mounting Technology: Surface Mount; Code_JEDEC: MO-220; Code_IPC: J-STD-020; ComponentLink1Description: Manufacturer URL; ComponentLink1URL: http://www.silabs.com/; ComponentLink2Description: Datasheet; ComponentLink2URL: http://www.silabs.com/Support%20Documents/TechnicalDocs/Si52144.pdf; ComponentLink3Description: Package Specification; ComponentLink3URL: http://www.silabs.com/Support%20Documents/TechnicalDocs/Si53152.pdf
footprint SLAB-QFN-24-2700x2700TP_N (QFN, 24-Leads, Body 4x4mm, Pitch 0.5mm, Thermal Pad 2.7x2.7mm, IPC Medium Density)
footprint SLAB-QFN-24-2700x2700TP_L (QFN, 24-Leads, Body 4x4mm, Pitch 0.5mm, Thermal Pad 2.7x2.7mm, IPC High Density)
footprint SLAB-QFN-24-2700x2700TP_M (QFN, 24-Leads, Body 4x4mm, Pitch 0.5mm, Thermal Pad 2.7x2.7mm, IPC Low Density)
pins: 1 VDD_DIFF (power) "3.3 V power supply.", 2 OE1 (in) "Active high input pin to enable or disable DIFF1 clock (internal 100 kohm pull-down).", 3 SSON (in) "3.3 V input for Spread Control (internal 100 kohm  pull-down).", 4 VSS (power) "Ground.", 5 OE2 (in) "Active high input pin to enable or disable DIFF2 clock (internal 100 kohm pull-down).", 6 VDD_DIFF (power) "3.3 V power supply.", 7 OE0 (in) "Active high input pin to enable or disable DIFF0 clock (internal 100 kohm pull-down).", 8 DIFF0 (out) "0.7 V, 100 MHz differential clock.", 9 ~{DIFF0} (out) "0.7 V, 100 MHz differential clock.", 10 DIFF1 (out) "0.7 V, 100 MHz differential clock.", 11 ~{DIFF1} (out) "0.7 V, 100 MHz differential clock.", 12 VDD_DIFF (power) "3.3 V power supply.", 13 ~{DIFF2} (out) "0.7 V, 100 MHz differential clock.", 14 DIFF2 (out) "0.7 V, 100 MHz differential clock.", 15 ~{DIFF3} (out) "0.7 V, 100 MHz differential clock.", 16 DIFF3 (out) "0.7 V, 100 MHz differential clock.", 17 VDD_DIFF (power) "3.3 V power supply.", 18 OE3 (in) "Active high input pin to enable or disable DIFF3 clock (internal 100 kohm pull-down).", 19 SCLK (in) "I2C SCLOCK.", 20 SDATA (io) "I2C SDATA.", 21 VDD_CORE (power) "3.3 V power supply.", 22 XOUT "25.00 MHz crystal output, Float XOUT if using only CLKIN (clock input).", 23 XIN/CLKIN (in) "25.00 MHz crystal input or 3.3 V, 25 MHz clock Input.", 24 VSS_CORE (power) "Ground.", 25 GND (power) "Ground for bottom pad of the IC."

## Si52144-A01AGMR
designator U?
PCI-Express Gen 1, Gen 2, & Gen 3 Quad Output Clock Generator, 3.3 V, 100 MHz Output, -40 to 85 degC, 24-pin QFN, Tape and Reel; Manufacturer: Silicon Labs; PartNumber: Si52144-A01AGMR; Output Format: HSCL; Output Frequency (MHz): 100; Phase Jitter (RMS): 1 ps; Reference Inputs: 1; VDD: 3.3 V; Sub-Family: Clock Generators; DatasheetVersion: Rev. 1.1; PackageReference: QFN-24; PackageDescription: 24-Pin Quad-Flat No-Leads Package, Body 4 x 4 mm, Pitch 0.5 mm; Supplier 1: Digi-Key; Supplier Part Number 1: SI52144-A01AGMR-ND; Supplier 2: Mouser; Supplier Part Number 2: 634-SI52144-A01AGMR; Packing: Tape and Reel; Mounting Technology: Surface Mount; Code_JEDEC: MO-220; Code_IPC: J-STD-020; ComponentLink1Description: Manufacturer URL; ComponentLink1URL: http://www.silabs.com/; ComponentLink2Description: Datasheet; ComponentLink2URL: http://www.silabs.com/Support%20Documents/TechnicalDocs/Si52144.pdf; ComponentLink3Description: Package Specification; ComponentLink3URL: http://www.silabs.com/Support%20Documents/TechnicalDocs/Si53152.pdf
footprint SLAB-QFN-24-2700x2700TP_N (QFN, 24-Leads, Body 4x4mm, Pitch 0.5mm, Thermal Pad 2.7x2.7mm, IPC Medium Density)
footprint SLAB-QFN-24-2700x2700TP_L (QFN, 24-Leads, Body 4x4mm, Pitch 0.5mm, Thermal Pad 2.7x2.7mm, IPC High Density)
footprint SLAB-QFN-24-2700x2700TP_M (QFN, 24-Leads, Body 4x4mm, Pitch 0.5mm, Thermal Pad 2.7x2.7mm, IPC Low Density)
pins: 1 VDD_DIFF (power) "3.3 V power supply.", 2 OE1 (in) "Active high input pin to enable or disable DIFF1 clock (internal 100 kohm pull-down).", 3 SSON (in) "3.3 V input for Spread Control (internal 100 kohm  pull-down).", 4 VSS (power) "Ground.", 5 OE2 (in) "Active high input pin to enable or disable DIFF2 clock (internal 100 kohm pull-down).", 6 VDD_DIFF (power) "3.3 V power supply.", 7 OE0 (in) "Active high input pin to enable or disable DIFF0 clock (internal 100 kohm pull-down).", 8 DIFF0 (out) "0.7 V, 100 MHz differential clock.", 9 ~{DIFF0} (out) "0.7 V, 100 MHz differential clock.", 10 DIFF1 (out) "0.7 V, 100 MHz differential clock.", 11 ~{DIFF1} (out) "0.7 V, 100 MHz differential clock.", 12 VDD_DIFF (power) "3.3 V power supply.", 13 ~{DIFF2} (out) "0.7 V, 100 MHz differential clock.", 14 DIFF2 (out) "0.7 V, 100 MHz differential clock.", 15 ~{DIFF3} (out) "0.7 V, 100 MHz differential clock.", 16 DIFF3 (out) "0.7 V, 100 MHz differential clock.", 17 VDD_DIFF (power) "3.3 V power supply.", 18 OE3 (in) "Active high input pin to enable or disable DIFF3 clock (internal 100 kohm pull-down).", 19 SCLK (in) "I2C SCLOCK.", 20 SDATA (io) "I2C SDATA.", 21 VDD_CORE (power) "3.3 V power supply.", 22 XOUT "25.00 MHz crystal output, Float XOUT if using only CLKIN (clock input).", 23 XIN/CLKIN (in) "25.00 MHz crystal input or 3.3 V, 25 MHz clock Input.", 24 VSS_CORE (power) "Ground.", 25 GND (power) "Ground for bottom pad of the IC."

## Si52146-A01AGM
designator U?
PCI-Express Gen 1, Gen 2, & Gen 3 Six Output Clock Generator, 3.3 V, 100 MHz Output, -40 to 85 degC, 32-pin QFN; Manufacturer: Silicon Labs; PartNumber: Si52146-A01AGM; Output Format: HSCL; Output Frequency (MHz): 100; Reference Inputs: 1; VDD: 3.3 V; Sub-Family: Clock Generators; DatasheetVersion: Rev. 1.1; PackageReference: QFN-32; PackageDescription: 32-Pin Quad-Flat No-Leads Package, Body 5 x 5 mm, Pitch 0.5 mm; Supplier 1: Digi-Key; Supplier Part Number 1: 336-2160-ND; Supplier 2: Mouser; Supplier Part Number 2: 634-SI52146A01A-GM; Mounting Technology: Surface Mount; Code_JEDEC: MO-220; Code_IPC: J-STD-020; ComponentLink1Description: Manufacturer URL; ComponentLink1URL: http://www.silabs.com/; ComponentLink2Description: Datasheet; ComponentLink2URL: http://www.silabs.com/Support%20Documents/TechnicalDocs/Si52146.pdf; ComponentLink3Description: Package Specification; ComponentLink3URL: http://www.silabs.com/Support%20Documents/TechnicalDocs/Si52146.pdf
footprint SLAB-QFN-32-3200x3200TP_N (QFN, 32-Leads, Body 5x5mm, Pitch 0.5mm, Thermal Pad 3.2x3.2mm, IPC Medium Density)
footprint SLAB-QFN-32-3200x3200TP_L (QFN, 32-Leads, Body 5x5mm, Pitch 0.5mm, Thermal Pad 3.2x3.2mm, IPC High Density)
footprint SLAB-QFN-32-3200x3200TP_M (QFN, 32-Leads, Body 5x5mm, Pitch 0.5mm, Thermal Pad 3.2x3.2mm, IPC Low Density)
pins: 1 VDD_DIFF (power) "3.3 V power supply", 2 OE_DIFF2 (in) "Active high input pin enables DIFF2 (internal 100 kohm pull-up).", 3 SSON (in) "Active high input pin enables -0.5% spread on DIFF clocks (internal 100 kohm pull-down)", 4 OE_DIFF3 (in) "Active high input pin enables DIFF3 (internal 100 kohm pull-up).", 5 OE_DIFF4 (in) "Active high input pin enables DIFF4 (internal 100 kohm pull-up).", 6 OE_DIFF5 (in) "Active high input pin enables DIFF5 (internal 100 kohm pull-up).", 7 NC "No connect", 8 VDD_DIFF (power) "3.3 V power supply", 9 DIFF0 (out) "0.7 V, 100 MHz differential clock", 10 ~{DIFF0} (out) "0.7 V, 100 MHz differential clock", 11 DIFF1 (out) "0.7 V, 100 MHz differential clock", 12 ~{DIFF1} (out) "0.7 V, 100 MHz differential clock", 13 VDD_DIFF (power) "3.3 V power supply", 14 DIFF2 (out) "0.7 V, 100 MHz differential clock", 15 ~{DIFF2} (out) "0.7 V, 100 MHz differential clock", 16 VDD_DIFF (power) "3.3 V power supply", 17 ~{DIFF3} (out) "0.7 V, 100 MHz differential clock", 18 DIFF3 (out) "0.7 V, 100 MHz differential clock", 19 ~{DIFF4} (out) "0.7 V, 100 MHz differential clock", 20 DIFF4 (out) "0.7 V, 100 MHz differential clock", 21 VDD_DIFF (power) "3.3 V power supply", 22 ~{DIFF5} (out) "0.7 V, 100 MHz differential clock", 23 DIFF5 (out) "0.7 V, 100 MHz differential clock", 24 VDD_DIFF (power) "3.3 V power supply", 25 SCLK (in) "I2C compatible SCLOCK", 26 SDATA (io) "I2C compatible SDATA", 27 CKPWRGD/PDB (in) "Active low input for asserting power down (PDB) and disabling all outputs (internal 100 kohm pull-up).", 28 VDD_CORE (power) "3.3 V power supply", 29 XOUT "25.00 MHz crystal output, Float XOUT if using only CLKIN (clock input)", 30 XIN/CLKIN (in) "25.00 MHz crystal input or 3.3 V, 25 MHz clock input", 31 OE_DIFF0 (in) "Active high input pin enables DIFF0 (internal 100 kohm pull-up).", 32 OE_DIFF1 (in) "Active high input pin enables DIFF1 (internal 100 kohm pull-up).", 33 GND (power) "Ground for bottom pad of the IC."

## Si52146-A01AGMR
designator U?
PCI-Express Gen 1, Gen 2, & Gen 3 Six Output Clock Generator, 3.3 V, 100 MHz Output, -40 to 85 degC, 32-pin QFN, Tape and Reel; Manufacturer: Silicon Labs; PartNumber: Si52146-A01AGMR; Output Format: HSCL; Output Frequency (MHz): 100; Phase Jitter (RMS): 1 ps; Reference Inputs: 1; VDD: 3.3 V; Sub-Family: Clock Generators; DatasheetVersion: Rev. 1.1; PackageReference: QFN-32; PackageDescription: 32-Pin Quad-Flat No-Leads Package, Body 5 x 5 mm, Pitch 0.5 mm; Supplier 1: Digi-Key; Supplier Part Number 1: SI52146-A01AGMR-ND; Supplier 2: Mouser; Supplier Part Number 2: 634-SI52146-A01AGMR; Packing: Tape and Reel; Mounting Technology: Surface Mount; Code_JEDEC: MO-220; Code_IPC: J-STD-020; ComponentLink1Description: Manufacturer URL; ComponentLink1URL: http://www.silabs.com/; ComponentLink2Description: Datasheet; ComponentLink2URL: http://www.silabs.com/Support%20Documents/TechnicalDocs/Si52146.pdf; ComponentLink3Description: Package Specification; ComponentLink3URL: http://www.silabs.com/Support%20Documents/TechnicalDocs/Si52146.pdf
footprint SLAB-QFN-32-3200x3200TP_N (QFN, 32-Leads, Body 5x5mm, Pitch 0.5mm, Thermal Pad 3.2x3.2mm, IPC Medium Density)
footprint SLAB-QFN-32-3200x3200TP_L (QFN, 32-Leads, Body 5x5mm, Pitch 0.5mm, Thermal Pad 3.2x3.2mm, IPC High Density)
footprint SLAB-QFN-32-3200x3200TP_M (QFN, 32-Leads, Body 5x5mm, Pitch 0.5mm, Thermal Pad 3.2x3.2mm, IPC Low Density)
pins: 1 VDD_DIFF (power) "3.3 V power supply", 2 OE_DIFF2 (in) "Active high input pin enables DIFF2 (internal 100 kohm pull-up).", 3 SSON (in) "Active high input pin enables -0.5% spread on DIFF clocks (internal 100 kohm pull-down)", 4 OE_DIFF3 (in) "Active high input pin enables DIFF3 (internal 100 kohm pull-up).", 5 OE_DIFF4 (in) "Active high input pin enables DIFF4 (internal 100 kohm pull-up).", 6 OE_DIFF5 (in) "Active high input pin enables DIFF5 (internal 100 kohm pull-up).", 7 NC "No connect", 8 VDD_DIFF (power) "3.3 V power supply", 9 DIFF0 (out) "0.7 V, 100 MHz differential clock", 10 ~{DIFF0} (out) "0.7 V, 100 MHz differential clock", 11 DIFF1 (out) "0.7 V, 100 MHz differential clock", 12 ~{DIFF1} (out) "0.7 V, 100 MHz differential clock", 13 VDD_DIFF (power) "3.3 V power supply", 14 DIFF2 (out) "0.7 V, 100 MHz differential clock", 15 ~{DIFF2} (out) "0.7 V, 100 MHz differential clock", 16 VDD_DIFF (power) "3.3 V power supply", 17 ~{DIFF3} (out) "0.7 V, 100 MHz differential clock", 18 DIFF3 (out) "0.7 V, 100 MHz differential clock", 19 ~{DIFF4} (out) "0.7 V, 100 MHz differential clock", 20 DIFF4 (out) "0.7 V, 100 MHz differential clock", 21 VDD_DIFF (power) "3.3 V power supply", 22 ~{DIFF5} (out) "0.7 V, 100 MHz differential clock", 23 DIFF5 (out) "0.7 V, 100 MHz differential clock", 24 VDD_DIFF (power) "3.3 V power supply", 25 SCLK (in) "I2C compatible SCLOCK", 26 SDATA (io) "I2C compatible SDATA", 27 CKPWRGD/PDB (in) "Active low input for asserting power down (PDB) and disabling all outputs (internal 100 kohm pull-up).", 28 VDD_CORE (power) "3.3 V power supply", 29 XOUT "25.00 MHz crystal output, Float XOUT if using only CLKIN (clock input)", 30 XIN/CLKIN (in) "25.00 MHz crystal input or 3.3 V, 25 MHz clock input", 31 OE_DIFF0 (in) "Active high input pin enables DIFF0 (internal 100 kohm pull-up).", 32 OE_DIFF1 (in) "Active high input pin enables DIFF1 (internal 100 kohm pull-up).", 33 GND (power) "Ground for bottom pad of the IC."

## Si52147-A01AGM
designator U?
PCI-Express Gen 1, Gen 2, & Gen 3 Nine Output Clock Generator, 3.3 V, 100 MHz Output, -40 to 85 degC, 48-pin QFN; Manufacturer: Silicon Labs; PartNumber: Si52147-A01AGM; Output Format: HSCL; Output Frequency (MHz): 100; Reference Inputs: 1; VDD: 3.3 V; Sub-Family: Clock Generators; DatasheetVersion: Rev. 1.1; PackageVersion: Rev. 1.0, 05/2012; PackageReference: QFN-48; PackageDescription: 48-Pin Quad-Flat No-Leads Package, Body 6 x 6 mm, Pitch 0.4 mm; Supplier 1: Digi-Key; Supplier Part Number 1: 336-2161-ND; Supplier 2: Mouser; Supplier Part Number 2: 634-SI52147A01A-GM; Mounting Technology: Surface Mount; Code_JEDEC: MO-220; Code_IPC: J-STD-020; ComponentLink1Description: Manufacturer URL; ComponentLink1URL: http://www.silabs.com/; ComponentLink2Description: Datasheet; ComponentLink2URL: http://www.silabs.com/Support%20Documents/TechnicalDocs/Si52147.pdf; ComponentLink3Description: Package Specification; ComponentLink3URL: http://www.silabs.com/Support%20Documents/TechnicalDocs/Si53159.pdf
footprint SLAB-QFN-48-4400x4400TP_A_N (QFN, 48-Leads, Body 6x6mm, Pitch 0.4mm, Thermal Pad 4.4x4.4mm, IPC Medium Density)
footprint SLAB-QFN-48-4400x4400TP_A_L (QFN, 48-Leads, Body 6x6mm, Pitch 0.4mm, Thermal Pad 4.4x4.4mm, IPC High Density)
footprint SLAB-QFN-48-4400x4400TP_A_M (QFN, 48-Leads, Body 6x6mm, Pitch 0.4mm, Thermal Pad 4.4x4.4mm, IPC Low Density)
part A pins: 3 OE_DIFF0 (in) "Active high input pin enables DIFF0 (internal 100 kohm pull-up).", 4 OE_DIFF1 (in) "Active high input pin enables DIFF1 (internal 100 kohm pull-up).", 5 SSON (in) "Active high input pin enables -0.5% spread on DIFF clocks (internal 100 kohm pull-down)", 8 OE_DIFF2 (in) "Active high input pin enables DIFF2 (internal 100 kohm pull-up).", 9 OE_DIFF3 (in) "Active high input pin enables DIFF3 (internal 100 kohm pull-up).", 10 OE_DIFF[4:5] (in) "Active high input pin enables DIFF[4:5] (internal 100 kohm pull-up).", 11 OE_DIFF[6:8] (in) "Active high input pin enables DIFF[6:8] (internal 100 kohm pull-up).", 14 DIFF0 (out) "0.7 V, 100 MHz differential clock", 15 ~{DIFF0} (out) "0.7 V, 100 MHz differential clock", 17 DIFF1 (out) "0.7 V, 100 MHz differential clock", 18 ~{DIFF1} (out) "0.7 V, 100 MHz differential clock", 19 DIFF2 (out) "0.7 V, 100 MHz differential clock", 20 ~{DIFF2} (out) "0.7 V, 100 MHz differential clock", 21 DIFF3 (out) "0.7 V, 100 MHz differential clock", 22 ~{DIFF3} (out) "0.7 V, 100 MHz differential clock", 25 ~{DIFF4} (out) "0.7 V, 100 MHz differential clock", 26 DIFF4 (out) "0.7 V, 100 MHz differential clock", 27 ~{DIFF5} (out) "0.7 V, 100 MHz differential clock", 28 DIFF5 (out) "0.7 V, 100 MHz differential clock", 30 ~{DIFF6} (out) "0.7 V, 100 MHz differential clock", 31 DIFF6 (out) "0.7 V, 100 MHz differential clock", 32 ~{DIFF7} (out) "0.7 V, 100 MHz differential clock", 33 DIFF7 (out) "0.7 V, 100 MHz differential clock", 35 ~{DIFF8} (out) "0.7 V, 100 MHz differential clock", 36 DIFF8 (out) "0.7 V, 100 MHz differential clock", 37 SCLK (in) "I2C compatible SCLOCK", 38 SDATA (io) "I2C compatible SDATA", 39 CKPWRGD/PDB (in) "Active low input pin asserts power down (PDB) and disables all outputs (internal 100 kohm pull-up).", 41 XOUT "25.00 MHz crystal output, Float XOUT if using only CLKIN (Clock input).", 42 XIN/CLKIN (in) "25.00 MHz crystal input or 3.3 V, 25 MHz Clock Input.", 43 NC "No Connect", 44 NC "No Connect", 47 NC "No Connect", 48 NC "No Connect"
part B pins: 1 VDD_DIFF (power) "3.3 V Power Supply", 2 VDD_DIFF (power) "3.3 V Power Supply", 6 VSS_DIFF (power) "Ground", 7 VSS_DIFF (power) "Ground", 12 VDD_DIFF (power) "3.3 V Power Supply", 13 VDD_DIFF (power) "3.3 V Power Supply", 16 VSS_DIFF (power) "Ground", 23 VDD_DIFF (power) "3.3V Power Supply", 24 VSS_DIFF (power) "Ground", 29 VSS_DIFF (power) "Ground", 34 VDD_DIFF (power) "3.3 V Power Supply", 40 VDD_CORE (power) "3.3 V Power Supply", 45 VSS_CORE (power) "Ground", 46 VSS_DIFF (power) "Ground", 49 GND (power) "Ground for bottom pad of the IC."